# EAGLE library part DG408DY (library maxim)
ANALOG MULTIPLEXER
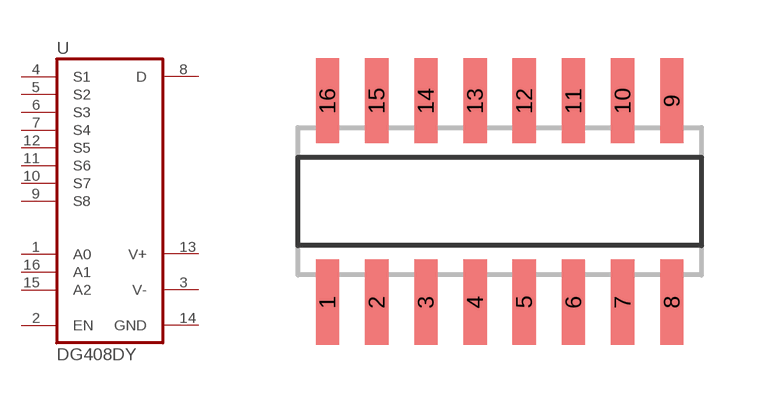
[diagram p325: symbol with the pads of SO16; footprint SO16]

Designator prefix U

## DG408DY (P1I: o)  [SO16]
1  A0  in
2  EN  in
3  V-  pwr
4  S1  pas
5  S2  pas
6  S3  pas
7  S4  pas
8  D  pas
9  S8  pas
10  S7  pas
11  S6  pas
12  S5  pas
13  V+  pwr
14  GND  pwr
15  A2  in
16  A1  in

## Footprint SO16 (pad centres in mm)
SMALL OUTLINE INTEGRATED CIRCUIT body 3.9 mm/JEDEC MS-012AC
smd 0.6 x 2.2: 1 -4.445,-2.6; 2 -3.175,-2.6; 3 -1.905,-2.6; 4 -0.635,-2.6; 5 0.635,-2.6; 6 1.905,-2.6; 7 3.175,-2.6; 8 4.445,-2.6; 9 4.445,2.6; 10 3.175,2.6; 11 1.905,2.6; 12 0.635,2.6; 13 -0.635,2.6; 14 -1.905,2.6; 15 -3.175,2.6; 16 -4.445,2.6